# EAGLE library part 62001421821 (library Board_to_Board_Connectors_rev15d)
WR-PHD 2.00mm Dual Socket Header, 14 Pins=>Code : Con_BTB_SHD_2.00_2_62001421821 <http://katalog.we-online.de/media/thumbs2/eican/thb_Con_BTB_SHD_2.00_2_6200xx21821_pf2.jpg> Details see: http://katalog.we-online.de/en/em/620_0xx_218_21 Created 2014-06-03, Karrer Zheng 2014 (C) Würth Elektronik
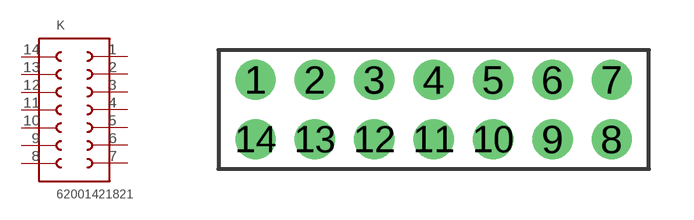
[diagram p258: symbol with the pads of 62001421821; footprint 62001421821]

Designator prefix K

## 62001421821  [62001421821]
1  1  pas
2  2  pas
3  3  pas
4  4  pas
5  5  pas
6  6  pas
7  7  pas
8  8  pas
9  9  pas
10  10  pas
11  11  pas
12  12  pas
13  13  pas
14  14  pas

## Footprint 62001421821 (pad centres in mm)
WR-PHD 2.00mm Dual Socket Header, 14 Pins
drill 0.85: 1 -6,1; 2 -4,1; 3 -2,1; 4 0,1; 5 2,1; 6 4,1; 7 6,1; 8 6,-1; 9 4,-1; 10 2,-1; 11 0,-1; 12 -2,-1; 13 -4,-1; 14 -6,-1